# Altium schematic symbol library Transistor_FET.SchLib: 509 symbols (part 2 of 4)
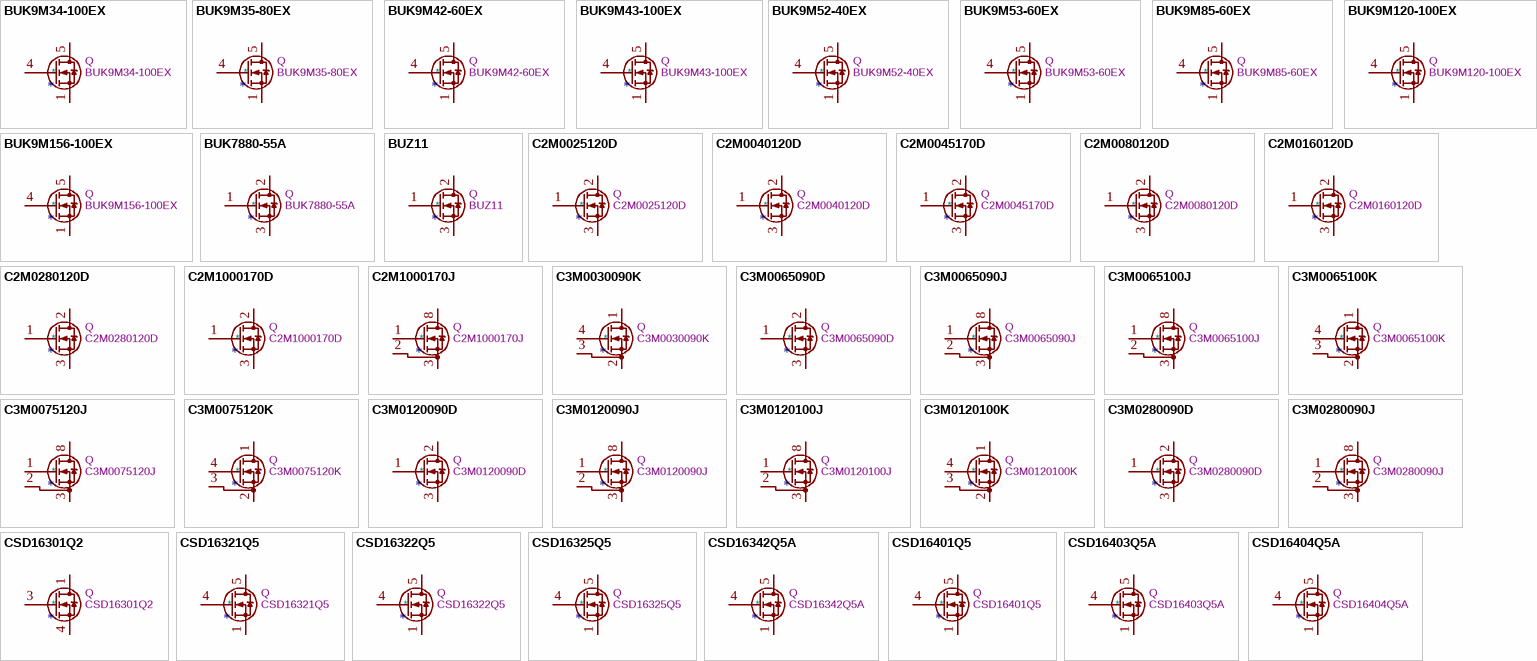
[diagram p14: symbols BUK9M34-100EX to CSD16404Q5A]

## C2M0040120D
designator *  value C2M0040120D  Reference: Q
ki_keywords: N-Channel SiC MOSFET; ki_description: 60A Id, 1200V Vds, 40mOhm, N-Channel SiC MOSFET, TO-247; ki_fp_filters: TO?247*; Footprint: Package_TO_SOT_THT:TO-247-3_Vertical; Datasheet: https://www.wolfspeed.com/media/downloads/165/C2M0040120D.pdf
pins: 1 G, 2 D, 3 S

## C2M0045170D
designator *  value C2M0045170D  Reference: Q
ki_keywords: N-Channel SiC MOSFET; ki_description: 72A Id, 1700V Vds, 45mOhm, N-Channel SiC MOSFET, TO-247; ki_fp_filters: TO?247*; Footprint: Package_TO_SOT_THT:TO-247-3_Vertical; Datasheet: https://www.wolfspeed.com/media/downloads/960/C2M0045170D.000.pdf
pins: 1 G, 2 D, 3 S

## C2M0080120D
designator *  value C2M0080120D  Reference: Q
ki_keywords: N-Channel SiC MOSFET; ki_description: 36A Id, 1200V Vds, 80mOhm, N-Channel SiC MOSFET, TO-247; ki_fp_filters: TO?247*; Footprint: Package_TO_SOT_THT:TO-247-3_Vertical; Datasheet: https://www.wolfspeed.com/media/downloads/167/C2M0080120D.pdf
pins: 1 G, 2 D, 3 S

## C2M0160120D
designator *  value C2M0160120D  Reference: Q
ki_keywords: N-Channel SiC MOSFET; ki_description: 19A Id, 1200V Vds, 160mOhm, N-Channel SiC MOSFET, TO-247; ki_fp_filters: TO?247*; Footprint: Package_TO_SOT_THT:TO-247-3_Vertical; Datasheet: https://www.wolfspeed.com/media/downloads/169/C2M0160120D.pdf
pins: 1 G, 2 D, 3 S

## C2M0280120D
designator *  value C2M0280120D  Reference: Q
ki_keywords: N-Channel SiC MOSFET; ki_description: 10A Id, 1200V Vds, 280mOhm, N-Channel SiC MOSFET, TO-247; ki_fp_filters: TO?247*; Footprint: Package_TO_SOT_THT:TO-247-3_Vertical; Datasheet: https://www.wolfspeed.com/media/downloads/171/C2M0280120D.pdf
pins: 1 G, 2 D, 3 S

## C2M1000170D
designator *  value C2M1000170D  Reference: Q
ki_keywords: N-Channel SiC MOSFET; ki_description: 5A Id, 1700V Vds, 1000mOhm, N-Channel SiC MOSFET, TO-247; ki_fp_filters: TO?247*; Footprint: Package_TO_SOT_THT:TO-247-3_Vertical; Datasheet: https://www.wolfspeed.com/media/downloads/173/C2M1000170D.pdf
pins: 1 G, 2 D, 3 S

## C2M1000170J
designator *  value C2M1000170J  Reference: Q
ki_keywords: N-Channel SiC MOSFET; ki_description: 5.3A Id, 1700V Vds, 1000mOhm, N-Channel SiC MOSFET, TO-263-7; ki_fp_filters: TO?263*TabPin8*; Footprint: Package_TO_SOT_SMD:TO-263-7_TabPin8; Datasheet: https://www.wolfspeed.com/media/downloads/820/C2M1000170J.pdf
pins: 1 G, 2 DS, 3 S, 4 S hidden, 5 S hidden, 6 S hidden, 7 S hidden, 8 D

## C3M0030090K
designator *  value C3M0030090K  Reference: Q
ki_keywords: N-Channel SiC MOSFET; ki_description: 63A Id, 900V Vds, 30mOhm, N-Channel SiC MOSFET, TO-247-4; ki_fp_filters: TO?247*; Footprint: Package_TO_SOT_THT:TO-247-4_Vertical; Datasheet: https://www.wolfspeed.com/media/downloads/1185/C3M0030090K.pdf
pins: 1 D, 2 S, 3 DS, 4 G

## C3M0065090D
designator *  value C3M0065090D  Reference: Q
ki_keywords: N-Channel SiC MOSFET; ki_description: 36A Id, 900V Vds, 65mOhm, N-Channel SiC MOSFET, TO-247; ki_fp_filters: TO?247*; Footprint: Package_TO_SOT_THT:TO-247-3_Vertical; Datasheet: https://www.wolfspeed.com/media/downloads/176/C3M0065090D.pdf
pins: 1 G, 2 D, 3 S

## C3M0065090J
designator *  value C3M0065090J  Reference: Q
ki_keywords: N-Channel SiC MOSFET; ki_description: 35A Id, 900V Vds, 65mOhm, N-Channel SiC MOSFET, TO-263-7; ki_fp_filters: TO?263*TabPin8*; Footprint: Package_TO_SOT_SMD:TO-263-7_TabPin8; Datasheet: https://www.wolfspeed.com/media/downloads/145/C3M0065090J.pdf
pins: 1 G, 2 DS, 3 S, 4 S hidden, 5 S hidden, 6 S hidden, 7 S hidden, 8 D

## C3M0065100J
designator *  value C3M0065100J  Reference: Q
ki_keywords: N-Channel SiC MOSFET; ki_description: 35A Id, 1000V Vds, 65mOhm, N-Channel SiC MOSFET, TO-263-7; ki_fp_filters: TO?263*TabPin8*; Footprint: Package_TO_SOT_SMD:TO-263-7_TabPin8; Datasheet: https://www.wolfspeed.com/media/downloads/958/C3M0065100J.pdf
pins: 1 G, 2 DS, 3 S, 4 S hidden, 5 S hidden, 6 S hidden, 7 S hidden, 8 D

## C3M0065100K
designator *  value C3M0065100K  Reference: Q
ki_keywords: N-Channel SiC MOSFET; ki_description: 35A Id, 1000V Vds, 65mOhm, N-Channel SiC MOSFET, TO-247-4; ki_fp_filters: TO?247*; Footprint: Package_TO_SOT_THT:TO-247-4_Vertical; Datasheet: https://www.wolfspeed.com/media/downloads/961/C3M0065100K.pdf
pins: 1 D, 2 S, 3 DS, 4 G

## C3M0075120J
designator *  value C3M0075120J  Reference: Q
ki_keywords: N-Channel SiC MOSFET; ki_description: 30A Id, 1200V Vds, 75mOhm, N-Channel SiC MOSFET, TO-263-7; ki_fp_filters: TO?263*TabPin8*; Footprint: Package_TO_SOT_SMD:TO-263-7_TabPin8; Datasheet: https://www.wolfspeed.com/media/downloads/997/C3M0075120J.pdf
pins: 1 G, 2 DS, 3 S, 4 S hidden, 5 S hidden, 6 S hidden, 7 S hidden, 8 D

## C3M0075120K
designator *  value C3M0075120K  Reference: Q
ki_keywords: N-Channel SiC MOSFET; ki_description: 30A Id, 1200V Vds, 75mOhm, N-Channel SiC MOSFET, TO-247-4; ki_fp_filters: TO?247*; Footprint: Package_TO_SOT_THT:TO-247-4_Vertical; Datasheet: https://www.wolfspeed.com/media/downloads/959/c3m0075120k.pdf
pins: 1 D, 2 S, 3 DS, 4 G

## C3M0120090D
designator *  value C3M0120090D  Reference: Q
ki_keywords: N-Channel SiC MOSFET; ki_description: 23A Id, 900V Vds, 120mOhm, N-Channel SiC MOSFET, TO-247; ki_fp_filters: TO?247*; Footprint: Package_TO_SOT_THT:TO-247-3_Vertical; Datasheet: https://www.wolfspeed.com/media/downloads/824/C3M0120090D.pdf
pins: 1 G, 2 D, 3 S

## C3M0120090J
designator *  value C3M0120090J  Reference: Q
ki_keywords: N-Channel SiC MOSFET; ki_description: 22A Id, 900V Vds, 120mOhm, N-Channel SiC MOSFET, TO-263-7; ki_fp_filters: TO?263*TabPin8*; Footprint: Package_TO_SOT_SMD:TO-263-7_TabPin8; Datasheet: https://www.wolfspeed.com/media/downloads/834/C3M0120090J.pdf
pins: 1 G, 2 DS, 3 S, 4 S hidden, 5 S hidden, 6 S hidden, 7 S hidden, 8 D

## C3M0120100J
designator *  value C3M0120100J  Reference: Q
ki_keywords: N-Channel SiC MOSFET; ki_description: 22A Id, 1000V Vds, 120mOhm, N-Channel SiC MOSFET, TO-263-7; ki_fp_filters: TO?263*TabPin8*; Footprint: Package_TO_SOT_SMD:TO-263-7_TabPin8; Datasheet: https://www.wolfspeed.com/media/downloads/957/C3M0120100J.pdf
pins: 1 G, 2 DS, 3 S, 4 S hidden, 5 S hidden, 6 S hidden, 7 S hidden, 8 D

## C3M0120100K
designator *  value C3M0120100K  Reference: Q
ki_keywords: N-Channel SiC MOSFET; ki_description: 22A Id, 1000V Vds, 120mOhm, N-Channel SiC MOSFET, TO-247-4; ki_fp_filters: TO?247*; Footprint: Package_TO_SOT_THT:TO-247-4_Vertical; Datasheet: https://www.wolfspeed.com/media/downloads/962/C3M0120100K.pdf
pins: 1 D, 2 S, 3 DS, 4 G

## C3M0280090D
designator *  value C3M0280090D  Reference: Q
ki_keywords: N-Channel SiC MOSFET; ki_description: 11.5A Id, 900V Vds, 280mOhm, N-Channel SiC MOSFET, TO-247; ki_fp_filters: TO?247*; Footprint: Package_TO_SOT_THT:TO-247-3_Vertical; Datasheet: https://www.wolfspeed.com/media/downloads/825/C3M0280090D.pdf
pins: 1 G, 2 D, 3 S

## C3M0280090J
designator *  value C3M0280090J  Reference: Q
ki_keywords: N-Channel SiC MOSFET; ki_description: 11.5A Id, 900V Vds, 280mOhm, N-Channel SiC MOSFET, TO-263-7; ki_fp_filters: TO?263*TabPin8*; Footprint: Package_TO_SOT_SMD:TO-263-7_TabPin8; Datasheet: https://www.wolfspeed.com/media/downloads/835/C3M0280090J.pdf
pins: 1 G, 2 DS, 3 S, 4 S hidden, 5 S hidden, 6 S hidden, 7 S hidden, 8 D

## CSD16301Q2
designator *  value CSD16301Q2  Reference: Q
ki_keywords: NexFET Power MOSFET N-MOS; ki_description: 5A Id, 25V Vds, NexFET N-Channel Power MOSFET, 19mOhm Ron, SON-6; ki_fp_filters: Texas*DQK*; Footprint: Package_SON:Texas_DQK; Datasheet: http://www.ti.com/lit/ds/symlink/csd16301q2.pdf
pins: 1 D, 2 D hidden, 3 G, 4 S, 5 D hidden, 6 D hidden, 7 S hidden, 8 D hidden

## CSD16321Q5
designator *  value CSD16321Q5  Reference: Q
ki_keywords: NexFET Power MOSFET N-MOS; ki_description: 100A Id, 25V Vds, NexFET N-Channel Power MOSFET, 2.6mOhm Ron, 14nC Qg(typ), SON8 5x6mm; ki_fp_filters: TDSON*; Footprint: Package_TO_SOT_SMD:TDSON-8-1; Datasheet: http://www.ti.com/lit/gpn/csd16321q5
pins: 1 S, 2 S hidden, 3 S hidden, 4 G, 5 D

## CSD16322Q5
designator *  value CSD16322Q5  Reference: Q
ki_keywords: NexFET Power MOSFET N-MOS; ki_description: 100A Id, 25V Vds, NexFET N-Channel Power MOSFET, 5.8mOhm Ron, Qg (typ) 6.8nC, SON8 5x6mm; ki_fp_filters: TDSON*; Footprint: Package_TO_SOT_SMD:TDSON-8-1; Datasheet: http://www.ti.com/lit/gpn/csd16322q5
pins: 1 S, 2 S hidden, 3 S hidden, 4 G, 5 D

## CSD16325Q5
designator *  value CSD16325Q5  Reference: Q
ki_keywords: NexFET Power MOSFET N-MOS; ki_description: 100A Id, 25V Vds, NexFET N-Channel Power MOSFET, 2.2mOhm Ron, 18nC Qg(typ), SON8 5x6mm; ki_fp_filters: TDSON*; Footprint: Package_TO_SOT_SMD:TDSON-8-1; Datasheet: http://www.ti.com/lit/gpn/csd16325q5
pins: 1 S, 2 S hidden, 3 S hidden, 4 G, 5 D

## CSD16342Q5A
designator *  value CSD16342Q5A  Reference: Q
ki_keywords: NexFET Power MOSFET N-MOS; ki_description: 100A Id, 25V Vds, NexFET N-Channel Power MOSFET, 5.5mOhm Ron, Qg (typ) 6.5nC, SON8 5x6mm; ki_fp_filters: TDSON*; Footprint: Package_TO_SOT_SMD:TDSON-8-1; Datasheet: http://www.ti.com/lit/gpn/csd16342q5a
pins: 1 S, 2 S hidden, 3 S hidden, 4 G, 5 D

## CSD16401Q5
designator *  value CSD16401Q5  Reference: Q
ki_keywords: NexFET Power MOSFET N-MOS; ki_description: 100A Id, 25V Vds, NexFET N-Channel Power MOSFET, 1.6mOhm Ron, 21nC Qg(typ), SON8 5x6mm; ki_fp_filters: TDSON*; Footprint: Package_TO_SOT_SMD:TDSON-8-1; Datasheet: http://www.ti.com/lit/gpn/csd16401q5
pins: 1 S, 2 S hidden, 3 S hidden, 4 G, 5 D

## CSD16403Q5A
designator *  value CSD16403Q5A  Reference: Q
ki_keywords: NexFET Power MOSFET N-MOS; ki_description: 100A Id, 25V Vds, NexFET N-Channel Power MOSFET, 2.8mOhm Ron, Qg (typ) 13.3nC, SON8 5x6mm; ki_fp_filters: TDSON*; Footprint: Package_TO_SOT_SMD:TDSON-8-1; Datasheet: http://www.ti.com/lit/gpn/csd16403q5a
pins: 1 S, 2 S hidden, 3 S hidden, 4 G, 5 D

## CSD16404Q5A
designator *  value CSD16404Q5A  Reference: Q
ki_keywords: NexFET Power MOSFET N-MOS; ki_description: 100A Id, 25V Vds, NexFET N-Channel Power MOSFET, 5.1mOhm Ron, Qg (typ) 6.5nC, SON8 5x6mm; ki_fp_filters: TDSON*; Footprint: Package_TO_SOT_SMD:TDSON-8-1; Datasheet: http://www.ti.com/lit/gpn/csd16404q5a
pins: 1 S, 2 S hidden, 3 S hidden, 4 G, 5 D

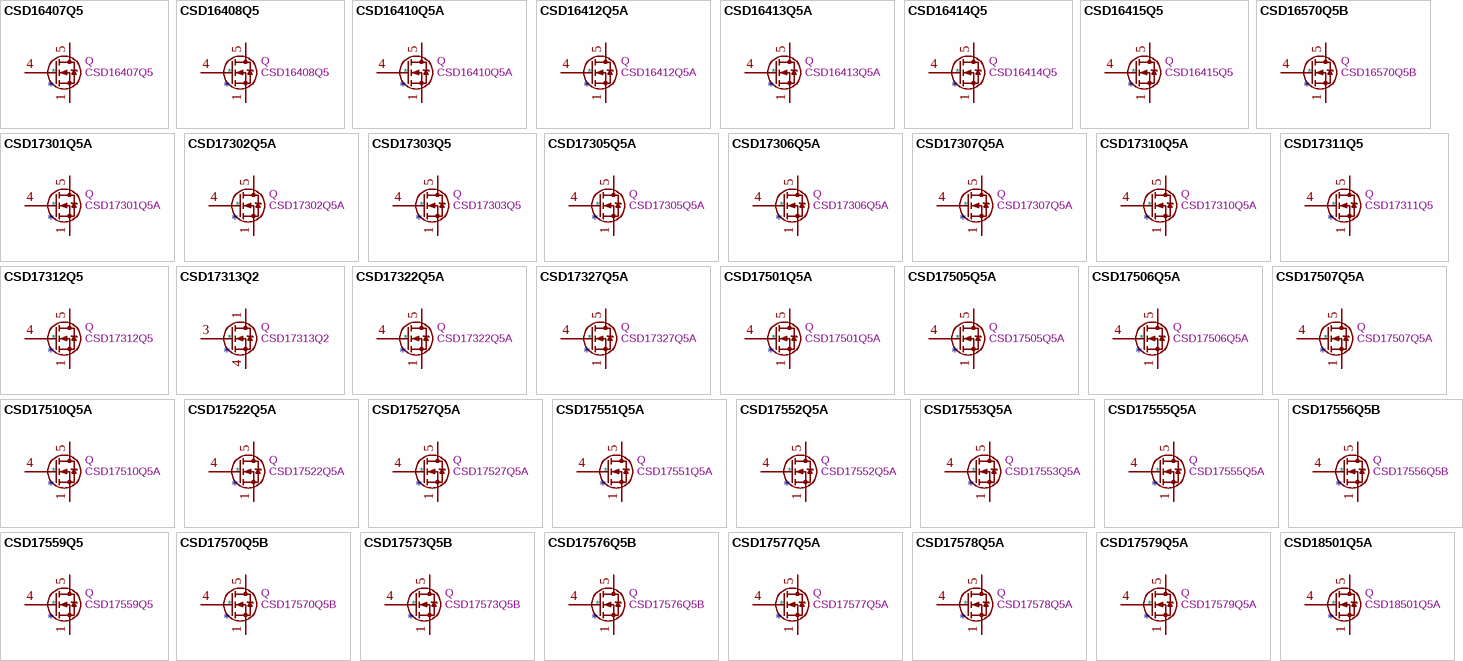
[diagram p4: symbols CSD16407Q5 to CSD18501Q5A]

## CSD16407Q5
designator *  value CSD16407Q5  Reference: Q
ki_keywords: NexFET Power MOSFET N-MOS; ki_description: 100A Id, 25V Vds, NexFET N-Channel Power MOSFET, 2.4mOhm Ron, Qg (typ) 13.3nC, SON8 5x6mm; ki_fp_filters: TDSON*; Footprint: Package_TO_SOT_SMD:TDSON-8-1; Datasheet: http://www.ti.com/lit/gpn/csd16407q5
pins: 1 S, 2 S hidden, 3 S hidden, 4 G, 5 D

## CSD16408Q5
designator *  value CSD16408Q5  Reference: Q
ki_keywords: NexFET Power MOSFET N-MOS; ki_description: 100A Id, 25V Vds, NexFET N-Channel Power MOSFET, 4.5mOhm Ron, Qg (typ) 6.7nC, SON8 5x6mm; ki_fp_filters: TDSON*; Footprint: Package_TO_SOT_SMD:TDSON-8-1; Datasheet: http://www.ti.com/lit/gpn/csd16408q5
pins: 1 S, 2 S hidden, 3 S hidden, 4 G, 5 D

## CSD16410Q5A
designator *  value CSD16410Q5A  Reference: Q
ki_keywords: NexFET Power MOSFET N-MOS; ki_description: 100A Id, 25V Vds, NexFET N-Channel Power MOSFET, 8.5mOhm Ron, Qg (typ) 3.9nC, SON8 5x6mm; ki_fp_filters: TDSON*; Footprint: Package_TO_SOT_SMD:TDSON-8-1; Datasheet: http://www.ti.com/lit/gpn/csd16410q5a
pins: 1 S, 2 S hidden, 3 S hidden, 4 G, 5 D

## CSD16412Q5A
designator *  value CSD16412Q5A  Reference: Q
ki_keywords: NexFET Power MOSFET N-MOS; ki_description: 100A Id, 25V Vds, NexFET N-Channel Power MOSFET, 11mOhm Ron, Qg (typ) 2.9nC, SON8 5x6mm; ki_fp_filters: TDSON*; Footprint: Package_TO_SOT_SMD:TDSON-8-1; Datasheet: http://www.ti.com/lit/gpn/csd16412q5a
pins: 1 S, 2 S hidden, 3 S hidden, 4 G, 5 D

## CSD16413Q5A
designator *  value CSD16413Q5A  Reference: Q
ki_keywords: NexFET Power MOSFET N-MOS; ki_description: 100A Id, 25V Vds, NexFET N-Channel Power MOSFET, 3.9mOhm Ron, 9nC Qg(typ), SON8 5x6mm; ki_fp_filters: TDSON*; Footprint: Package_TO_SOT_SMD:TDSON-8-1; Datasheet: http://www.ti.com/lit/gpn/csd16413q5a
pins: 1 S, 2 S hidden, 3 S hidden, 4 G, 5 D

## CSD16414Q5
designator *  value CSD16414Q5  Reference: Q
ki_keywords: NexFET Power MOSFET N-MOS; ki_description: 100A Id, 25V Vds, NexFET N-Channel Power MOSFET, 1.9mOhm Ron, Qg (typ) 16.6nC, SON8 5x6mm; ki_fp_filters: TDSON*; Footprint: Package_TO_SOT_SMD:TDSON-8-1; Datasheet: http://www.ti.com/lit/gpn/csd16414q5
pins: 1 S, 2 S hidden, 3 S hidden, 4 G, 5 D

## CSD16415Q5
designator *  value CSD16415Q5  Reference: Q
ki_keywords: NexFET Power MOSFET N-MOS; ki_description: 100A Id, 25V Vds, NexFET N-Channel Power MOSFET, 1.15mOhm Ron, 21nC Qg(typ), SON8 5x6mm; ki_fp_filters: TDSON*; Footprint: Package_TO_SOT_SMD:TDSON-8-1; Datasheet: http://www.ti.com/lit/gpn/csd16415q5
pins: 1 S, 2 S hidden, 3 S hidden, 4 G, 5 D

## CSD16570Q5B
designator *  value CSD16570Q5B  Reference: Q
ki_keywords: NexFET Power MOSFET N-MOS; ki_description: 100A Id, 25V Vds, NexFET N-Channel Power MOSFET, 0.59mOhm Ron, 95nC Qg(typ), SON8 5x6mm; ki_fp_filters: TDSON*; Footprint: Package_TO_SOT_SMD:TDSON-8-1; Datasheet: http://www.ti.com/lit/gpn/csd16570q5b
pins: 1 S, 2 S hidden, 3 S hidden, 4 G, 5 D

## CSD17301Q5A
designator *  value CSD17301Q5A  Reference: Q
ki_keywords: NexFET Power MOSFET N-MOS; ki_description: 100A Id, 30V Vds, NexFET N-Channel Power MOSFET, 3mOhm Ron, 19nC Qg(typ), SON8 5x6mm; ki_fp_filters: TDSON*; Footprint: Package_TO_SOT_SMD:TDSON-8-1; Datasheet: http://www.ti.com/lit/gpn/csd17301q5a
pins: 1 S, 2 S hidden, 3 S hidden, 4 G, 5 D

## CSD17302Q5A
designator *  value CSD17302Q5A  Reference: Q
ki_keywords: NexFET Power MOSFET N-MOS; ki_description: 100A Id, 30V Vds, NexFET N-Channel Power MOSFET, 9mOhm Ron, Qg (typ) 5.4nC, SON8 5x6mm; ki_fp_filters: TDSON*; Footprint: Package_TO_SOT_SMD:TDSON-8-1; Datasheet: http://www.ti.com/lit/gpn/csd17302q5a
pins: 1 S, 2 S hidden, 3 S hidden, 4 G, 5 D

## CSD17303Q5
designator *  value CSD17303Q5  Reference: Q
ki_keywords: NexFET Power MOSFET N-MOS; ki_description: 100A Id, 30V Vds, NexFET N-Channel Power MOSFET, 2.6mOhm Ron, 18nC Qg(typ), SON8 5x6mm; ki_fp_filters: TDSON*; Footprint: Package_TO_SOT_SMD:TDSON-8-1; Datasheet: http://www.ti.com/lit/gpn/csd17303q5
pins: 1 S, 2 S hidden, 3 S hidden, 4 G, 5 D

## CSD17305Q5A
designator *  value CSD17305Q5A  Reference: Q
ki_keywords: NexFET Power MOSFET N-MOS; ki_description: 100A Id, 30V Vds, NexFET N-Channel Power MOSFET, 2.8mOhm Ron, Qg (typ) 14.1nC, SON8 5x6mm; ki_fp_filters: TDSON*; Footprint: Package_TO_SOT_SMD:TDSON-8-1; Datasheet: http://www.ti.com/lit/gpn/csd17305q5a
pins: 1 S, 2 S hidden, 3 S hidden, 4 G, 5 D

## CSD17306Q5A
designator *  value CSD17306Q5A  Reference: Q
ki_keywords: NexFET Power MOSFET N-MOS; ki_description: 100A Id, 30V Vds, NexFET N-Channel Power MOSFET, 4.2mOhm Ron, Qg (typ) 11.8nC, SON8 5x6mm; ki_fp_filters: TDSON*; Footprint: Package_TO_SOT_SMD:TDSON-8-1; Datasheet: http://www.ti.com/lit/gpn/csd17306q5a
pins: 1 S, 2 S hidden, 3 S hidden, 4 G, 5 D

## CSD17307Q5A
designator *  value CSD17307Q5A  Reference: Q
ki_keywords: NexFET Power MOSFET N-MOS; ki_description: 100A Id, 30V Vds, NexFET N-Channel Power MOSFET, 12.1mOhm Ron, 4nC Qg(typ), SON8 5x6mm; ki_fp_filters: TDSON*; Footprint: Package_TO_SOT_SMD:TDSON-8-1; Datasheet: http://www.ti.com/lit/gpn/csd17307q5a
pins: 1 S, 2 S hidden, 3 S hidden, 4 G, 5 D

## CSD17310Q5A
designator *  value CSD17310Q5A  Reference: Q
ki_keywords: NexFET Power MOSFET N-MOS; ki_description: 100A Id, 30V Vds, NexFET N-Channel Power MOSFET, 5.9mOhm Ron, Qg (typ) 8.9nC, SON8 5x6mm; ki_fp_filters: TDSON*; Footprint: Package_TO_SOT_SMD:TDSON-8-1; Datasheet: http://www.ti.com/lit/gpn/csd17310q5a
pins: 1 S, 2 S hidden, 3 S hidden, 4 G, 5 D

## CSD17311Q5
designator *  value CSD17311Q5  Reference: Q
ki_keywords: NexFET Power MOSFET N-MOS; ki_description: 100A Id, 30V Vds, NexFET N-Channel Power MOSFET, 2.3mOhm Ron, 24nC Qg(typ), SON8 5x6mm; ki_fp_filters: TDSON*; Footprint: Package_TO_SOT_SMD:TDSON-8-1; Datasheet: http://www.ti.com/lit/gpn/csd17311q5
pins: 1 S, 2 S hidden, 3 S hidden, 4 G, 5 D

## CSD17312Q5
designator *  value CSD17312Q5  Reference: Q
ki_keywords: NexFET Power MOSFET N-MOS; ki_description: 100A Id, 30V Vds, NexFET N-Channel Power MOSFET, 1.7mOhm Ron, 28nC Qg(typ), SON8 5x6mm; ki_fp_filters: TDSON*; Footprint: Package_TO_SOT_SMD:TDSON-8-1; Datasheet: http://www.ti.com/lit/gpn/csd17312q5
pins: 1 S, 2 S hidden, 3 S hidden, 4 G, 5 D

## CSD17313Q2
designator *  value CSD17313Q2  Reference: Q
ki_keywords: NexFET Power MOSFET N-MOS; ki_description: 5A Id, 30V Vds, NexFET N-Channel Power MOSFET, 24mOhm Ron, SON-6; ki_fp_filters: Texas*DQK*; Footprint: Package_SON:Texas_DQK; Datasheet: http://www.ti.com/lit/ds/symlink/csd17313q2.pdf
pins: 1 D, 2 D hidden, 3 G, 4 S, 5 D hidden, 6 D hidden, 7 S hidden, 8 D hidden

## CSD17322Q5A
designator *  value CSD17322Q5A  Reference: Q
ki_keywords: NexFET Power MOSFET N-MOS; ki_description: 100A Id, 30V Vds, NexFET N-Channel Power MOSFET, 12.4mOhm Ron, Qg (typ) 3.6nC, SON8 5x6mm; ki_fp_filters: TDSON*; Footprint: Package_TO_SOT_SMD:TDSON-8-1; Datasheet: http://www.ti.com/lit/gpn/csd17322q5a
pins: 1 S, 2 S hidden, 3 S hidden, 4 G, 5 D

## CSD17327Q5A
designator *  value CSD17327Q5A  Reference: Q
ki_keywords: NexFET Power MOSFET N-MOS; ki_description: 100A Id, 30V Vds, NexFET N-Channel Power MOSFET, 15.5mOhm Ron, Qg (typ) 2.8nC, SON8 5x6mm; ki_fp_filters: TDSON*; Footprint: Package_TO_SOT_SMD:TDSON-8-1; Datasheet: http://www.ti.com/lit/gpn/csd17327q5a
pins: 1 S, 2 S hidden, 3 S hidden, 4 G, 5 D

## CSD17501Q5A
designator *  value CSD17501Q5A  Reference: Q
ki_keywords: NexFET Power MOSFET N-MOS; ki_description: 100A Id, 30V Vds, NexFET N-Channel Power MOSFET, 2.9mOhm Ron, Qg (typ) 13.2nC, SON8 5x6mm; ki_fp_filters: TDSON*; Footprint: Package_TO_SOT_SMD:TDSON-8-1; Datasheet: http://www.ti.com/lit/gpn/csd17501q5a
pins: 1 S, 2 S hidden, 3 S hidden, 4 G, 5 D

## CSD17505Q5A
designator *  value CSD17505Q5A  Reference: Q
ki_keywords: NexFET Power MOSFET N-MOS; ki_description: 100A Id, 30V Vds, NexFET N-Channel Power MOSFET, 3.5mOhm Ron, 10nC Qg(typ), SON8 5x6mm; ki_fp_filters: TDSON*; Footprint: Package_TO_SOT_SMD:TDSON-8-1; Datasheet: http://www.ti.com/lit/gpn/csd17505q5a
pins: 1 S, 2 S hidden, 3 S hidden, 4 G, 5 D

## CSD17506Q5A
designator *  value CSD17506Q5A  Reference: Q
ki_keywords: NexFET Power MOSFET N-MOS; ki_description: 100A Id, 30V Vds, NexFET N-Channel Power MOSFET, 4mOhm Ron, Qg (typ) 8.3nC, SON8 5x6mm; ki_fp_filters: TDSON*; Footprint: Package_TO_SOT_SMD:TDSON-8-1; Datasheet: http://www.ti.com/lit/gpn/csd17506q5a
pins: 1 S, 2 S hidden, 3 S hidden, 4 G, 5 D

## CSD17507Q5A
designator *  value CSD17507Q5A  Reference: Q
ki_keywords: NexFET Power MOSFET N-MOS; ki_description: 100A Id, 30V Vds, NexFET N-Channel Power MOSFET, 10.8mOhm Ron, Qg (typ) 2.8nC, SON8 5x6mm; ki_fp_filters: TDSON*; Footprint: Package_TO_SOT_SMD:TDSON-8-1; Datasheet: http://www.ti.com/lit/gpn/csd17507q5a
pins: 1 S, 2 S hidden, 3 S hidden, 4 G, 5 D

## CSD17510Q5A
designator *  value CSD17510Q5A  Reference: Q
ki_keywords: NexFET Power MOSFET N-MOS; ki_description: 100A Id, 30V Vds, NexFET N-Channel Power MOSFET, 5.2mOhm Ron, Qg (typ) 6.4nC, SON8 5x6mm; ki_fp_filters: TDSON*; Footprint: Package_TO_SOT_SMD:TDSON-8-1; Datasheet: http://www.ti.com/lit/gpn/csd17510q5a
pins: 1 S, 2 S hidden, 3 S hidden, 4 G, 5 D

## CSD17522Q5A
designator *  value CSD17522Q5A  Reference: Q
ki_keywords: NexFET Power MOSFET N-MOS; ki_description: 100A Id, 30V Vds, NexFET N-Channel Power MOSFET, 8.1mOhm Ron, Qg (typ) 3.6nC, SON8 5x6mm; ki_fp_filters: TDSON*; Footprint: Package_TO_SOT_SMD:TDSON-8-1; Datasheet: http://www.ti.com/lit/gpn/csd17522q5a
pins: 1 S, 2 S hidden, 3 S hidden, 4 G, 5 D

## CSD17527Q5A
designator *  value CSD17527Q5A  Reference: Q
ki_keywords: NexFET Power MOSFET N-MOS; ki_description: 100A Id, 30V Vds, NexFET N-Channel Power MOSFET, 10.8mOhm Ron, Qg (typ) 2.8nC, SON8 5x6mm; ki_fp_filters: TDSON*; Footprint: Package_TO_SOT_SMD:TDSON-8-1; Datasheet: http://www.ti.com/lit/gpn/csd17527q5a
pins: 1 S, 2 S hidden, 3 S hidden, 4 G, 5 D

## CSD17551Q5A
designator *  value CSD17551Q5A  Reference: Q
ki_keywords: NexFET Power MOSFET N-MOS; ki_description: 48A Id, 30V Vds, NexFET N-Channel Power MOSFET, 8.8mOhm Ron, 6nC Qg(typ), SON8 5x6mm; ki_fp_filters: TDSON*; Footprint: Package_TO_SOT_SMD:TDSON-8-1; Datasheet: http://www.ti.com/lit/gpn/csd17551q5a
pins: 1 S, 2 S hidden, 3 S hidden, 4 G, 5 D

## CSD17552Q5A
designator *  value CSD17552Q5A  Reference: Q
ki_keywords: NexFET Power MOSFET N-MOS; ki_description: 60A Id, 30V Vds, NexFET N-Channel Power MOSFET, 6.2mOhm Ron, 9nC Qg(typ), SON8 5x6mm; ki_fp_filters: TDSON*; Footprint: Package_TO_SOT_SMD:TDSON-8-1; Datasheet: http://www.ti.com/lit/gpn/csd17552q5a
pins: 1 S, 2 S hidden, 3 S hidden, 4 G, 5 D

## CSD17553Q5A
designator *  value CSD17553Q5A  Reference: Q
ki_keywords: NexFET Power MOSFET N-MOS; ki_description: 100A Id, 30V Vds, NexFET N-Channel Power MOSFET, 3.1mOhm Ron, Qg (typ) 17.5nC, SON8 5x6mm; ki_fp_filters: TDSON*; Footprint: Package_TO_SOT_SMD:TDSON-8-1; Datasheet: http://www.ti.com/lit/gpn/csd17553q5a
pins: 1 S, 2 S hidden, 3 S hidden, 4 G, 5 D

## CSD17555Q5A
designator *  value CSD17555Q5A  Reference: Q
ki_keywords: NexFET Power MOSFET N-MOS; ki_description: 100A Id, 30V Vds, NexFET N-Channel Power MOSFET, 2.7mOhm Ron, 23nC Qg(typ), SON8 5x6mm; ki_fp_filters: TDSON*; Footprint: Package_TO_SOT_SMD:TDSON-8-1; Datasheet: http://www.ti.com/lit/gpn/csd17555q5a
pins: 1 S, 2 S hidden, 3 S hidden, 4 G, 5 D

## CSD17556Q5B
designator *  value CSD17556Q5B  Reference: Q
ki_keywords: NexFET Power MOSFET N-MOS; ki_description: 100A Id, 30V Vds, NexFET N-Channel Power MOSFET, 1.4mOhm Ron, Qg (typ) 28.5nC, SON8 5x6mm; ki_fp_filters: TDSON*; Footprint: Package_TO_SOT_SMD:TDSON-8-1; Datasheet: http://www.ti.com/lit/gpn/csd17556q5b
pins: 1 S, 2 S hidden, 3 S hidden, 4 G, 5 D

## CSD17559Q5
designator *  value CSD17559Q5  Reference: Q
ki_keywords: NexFET Power MOSFET N-MOS; ki_description: 100A Id, 30V Vds, NexFET N-Channel Power MOSFET, 1.15mOhm Ron, 39nC Qg(typ), SON8 5x6mm; ki_fp_filters: TDSON*; Footprint: Package_TO_SOT_SMD:TDSON-8-1; Datasheet: http://www.ti.com/lit/gpn/csd17559q5
pins: 1 S, 2 S hidden, 3 S hidden, 4 G, 5 D

## CSD17570Q5B
designator *  value CSD17570Q5B  Reference: Q
ki_keywords: NexFET Power MOSFET N-MOS; ki_description: 100A Id, 30V Vds, NexFET N-Channel Power MOSFET, 0.69mOhm Ron, 93nC Qg(typ), SON8 5x6mm; ki_fp_filters: TDSON*; Footprint: Package_TO_SOT_SMD:TDSON-8-1; Datasheet: http://www.ti.com/lit/gpn/csd17570q5b
pins: 1 S, 2 S hidden, 3 S hidden, 4 G, 5 D

## CSD17573Q5B
designator *  value CSD17573Q5B  Reference: Q
ki_keywords: NexFET Power MOSFET N-MOS; ki_description: 100A Id, 30V Vds, NexFET N-Channel Power MOSFET, 1mOhm Ron, 49nC Qg(typ), SON8 5x6mm; ki_fp_filters: TDSON*; Footprint: Package_TO_SOT_SMD:TDSON-8-1; Datasheet: http://www.ti.com/lit/gpn/csd17573q5b
pins: 1 S, 2 S hidden, 3 S hidden, 4 G, 5 D

## CSD17576Q5B
designator *  value CSD17576Q5B  Reference: Q
ki_keywords: NexFET Power MOSFET N-MOS; ki_description: 100A Id, 30V Vds, NexFET N-Channel Power MOSFET, 2mOhm Ron, 25nC Qg(typ), SON8 5x6mm; ki_fp_filters: TDSON*; Footprint: Package_TO_SOT_SMD:TDSON-8-1; Datasheet: http://www.ti.com/lit/gpn/csd17576q5b
pins: 1 S, 2 S hidden, 3 S hidden, 4 G, 5 D

## CSD17577Q5A
designator *  value CSD17577Q5A  Reference: Q
ki_keywords: NexFET Power MOSFET N-MOS; ki_description: 60A Id, 30V Vds, NexFET N-Channel Power MOSFET, 4.2mOhm Ron, 13nC Qg(typ), SON8 5x6mm; ki_fp_filters: TDSON*; Footprint: Package_TO_SOT_SMD:TDSON-8-1; Datasheet: http://www.ti.com/lit/gpn/csd17577q5a
pins: 1 S, 2 S hidden, 3 S hidden, 4 G, 5 D

## CSD17578Q5A
designator *  value CSD17578Q5A  Reference: Q
ki_keywords: NexFET Power MOSFET N-MOS; ki_description: 25A Id, 30V Vds, NexFET N-Channel Power MOSFET, 6.9mOhm Ron, Qg (typ) 7.9nC, SON8 5x6mm; ki_fp_filters: TDSON*; Footprint: Package_TO_SOT_SMD:TDSON-8-1; Datasheet: http://www.ti.com/lit/gpn/csd17578q5a
pins: 1 S, 2 S hidden, 3 S hidden, 4 G, 5 D

## CSD17579Q5A
designator *  value CSD17579Q5A  Reference: Q
ki_keywords: NexFET Power MOSFET N-MOS; ki_description: 25A Id, 30V Vds, NexFET N-Channel Power MOSFET, 9.7mOhm Ron, Qg (typ) 5.4nC, SON8 5x6mm; ki_fp_filters: TDSON*; Footprint: Package_TO_SOT_SMD:TDSON-8-1; Datasheet: http://www.ti.com/lit/gpn/csd17579q5a
pins: 1 S, 2 S hidden, 3 S hidden, 4 G, 5 D

## CSD18501Q5A
designator *  value CSD18501Q5A  Reference: Q
ki_keywords: NexFET Power MOSFET N-MOS; ki_description: 100A Id, 40V Vds, NexFET N-Channel Power MOSFET, 3.2mOhm Ron, 42nC Qg(typ), SON8 5x6mm; ki_fp_filters: TDSON*; Footprint: Package_TO_SOT_SMD:TDSON-8-1; Datasheet: http://www.ti.com/lit/gpn/csd18501q5a
pins: 1 S, 2 S hidden, 3 S hidden, 4 G, 5 D

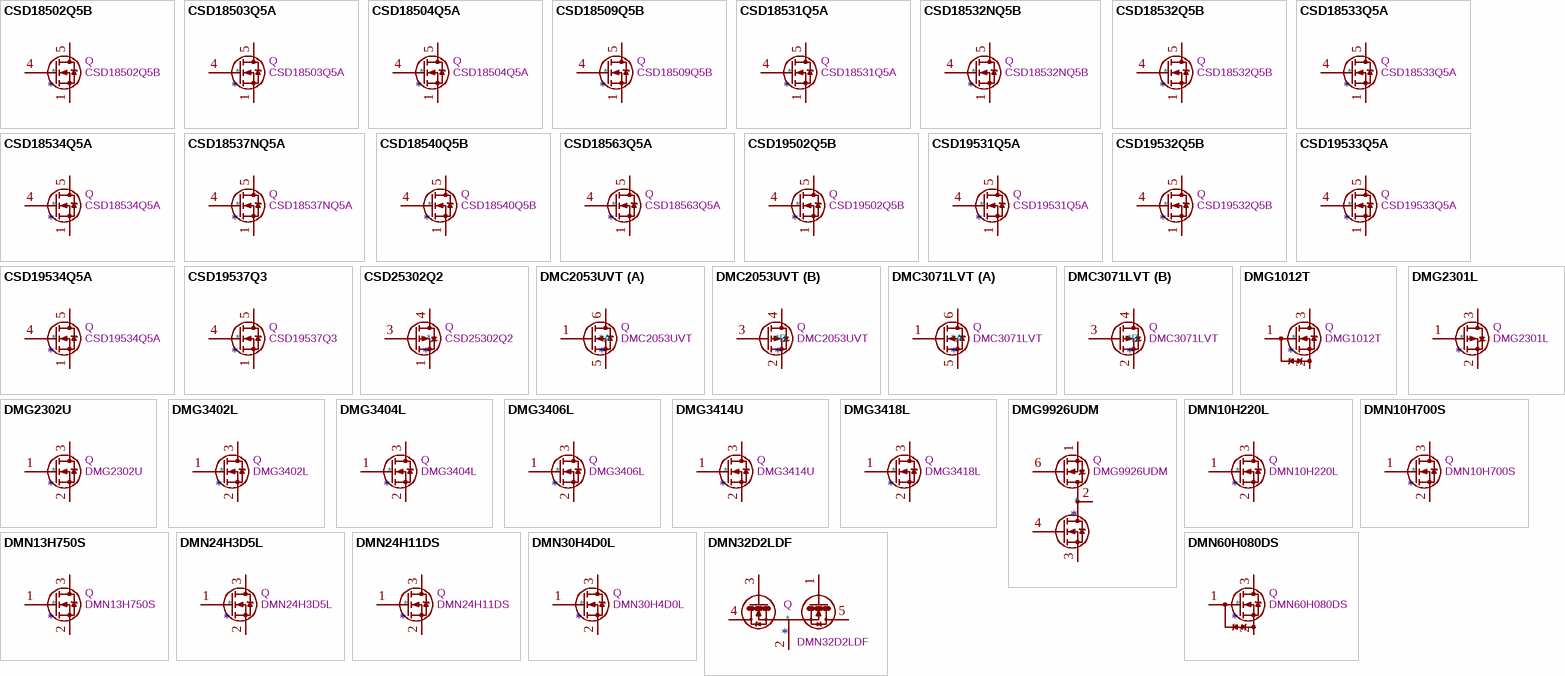
[diagram p5: symbols CSD18502Q5B to DMN60H080DS]

## CSD18502Q5B
designator *  value CSD18502Q5B  Reference: Q
ki_keywords: NexFET Power MOSFET N-MOS; ki_description: 100A Id, 40V Vds, NexFET N-Channel Power MOSFET, 2.3mOhm Ron, 52nC Qg(typ), SON8 5x6mm; ki_fp_filters: TDSON*; Footprint: Package_TO_SOT_SMD:TDSON-8-1; Datasheet: http://www.ti.com/lit/gpn/csd18502q5b
pins: 1 S, 2 S hidden, 3 S hidden, 4 G, 5 D

## CSD18503Q5A
designator *  value CSD18503Q5A  Reference: Q
ki_keywords: NexFET Power MOSFET N-MOS; ki_description: 100A Id, 40V Vds, NexFET N-Channel Power MOSFET, 4.3mOhm Ron, 26nC Qg(typ), SON8 5x6mm; ki_fp_filters: TDSON*; Footprint: Package_TO_SOT_SMD:TDSON-8-1; Datasheet: http://www.ti.com/lit/gpn/csd18503q5a
pins: 1 S, 2 S hidden, 3 S hidden, 4 G, 5 D

## CSD18504Q5A
designator *  value CSD18504Q5A  Reference: Q
ki_keywords: NexFET Power MOSFET N-MOS; ki_description: 50A Id, 40V Vds, NexFET N-Channel Power MOSFET, 6.6mOhm Ron, 16nC Qg(typ), SON8 5x6mm; ki_fp_filters: TDSON*; Footprint: Package_TO_SOT_SMD:TDSON-8-1; Datasheet: http://www.ti.com/lit/gpn/csd18504q5a
pins: 1 S, 2 S hidden, 3 S hidden, 4 G, 5 D

## CSD18509Q5B
designator *  value CSD18509Q5B  Reference: Q
ki_keywords: NexFET Power MOSFET N-MOS; ki_description: 100A Id, 40V Vds, NexFET N-Channel Power MOSFET, 1.2mOhm Ron, 150nC Qg(typ), SON8 5x6mm; ki_fp_filters: TDSON*; Footprint: Package_TO_SOT_SMD:TDSON-8-1; Datasheet: http://www.ti.com/lit/gpn/csd18509q5b
pins: 1 S, 2 S hidden, 3 S hidden, 4 G, 5 D

## CSD18531Q5A
designator *  value CSD18531Q5A  Reference: Q
ki_keywords: NexFET Power MOSFET N-MOS; ki_description: 100A Id, 60V Vds, NexFET N-Channel Power MOSFET, 4.6mOhm Ron, 36nC Qg(typ), SON8 5x6mm; ki_fp_filters: TDSON*; Footprint: Package_TO_SOT_SMD:TDSON-8-1; Datasheet: http://www.ti.com/lit/gpn/csd18531q5a
pins: 1 S, 2 S hidden, 3 S hidden, 4 G, 5 D

## CSD18532NQ5B
designator *  value CSD18532NQ5B  Reference: Q
ki_keywords: NexFET Power MOSFET N-MOS; ki_description: 100A Id, 60V Vds, NexFET N-Channel Power MOSFET, 3.4mOhm Ron, 49nC Qg(typ), SON8 5x6mm; ki_fp_filters: TDSON*; Footprint: Package_TO_SOT_SMD:TDSON-8-1; Datasheet: http://www.ti.com/lit/gpn/csd18532nq5b
pins: 1 S, 2 S hidden, 3 S hidden, 4 G, 5 D

## CSD18532Q5B
designator *  value CSD18532Q5B  Reference: Q
ki_keywords: NexFET Power MOSFET N-MOS; ki_description: 100A Id, 60V Vds, NexFET N-Channel Power MOSFET, 3.2mOhm Ron, 44nC Qg(typ), SON8 5x6mm; ki_fp_filters: TDSON*; Footprint: Package_TO_SOT_SMD:TDSON-8-1; Datasheet: http://www.ti.com/lit/gpn/csd18532q5b
pins: 1 S, 2 S hidden, 3 S hidden, 4 G, 5 D

## CSD18533Q5A
designator *  value CSD18533Q5A  Reference: Q
ki_keywords: NexFET Power MOSFET N-MOS; ki_description: 100A Id, 60V Vds, NexFET N-Channel Power MOSFET, 5.9mOhm Ron, 29nC Qg(typ), SON8 5x6mm; ki_fp_filters: TDSON*; Footprint: Package_TO_SOT_SMD:TDSON-8-1; Datasheet: http://www.ti.com/lit/gpn/csd18533q5a
pins: 1 S, 2 S hidden, 3 S hidden, 4 G, 5 D

## CSD18534Q5A
designator *  value CSD18534Q5A  Reference: Q
ki_keywords: NexFET Power MOSFET N-MOS; ki_description: 50A Id, 60V Vds, NexFET N-Channel Power MOSFET, 9.8mOhm Ron, 17nC Qg(typ), SON8 5x6mm; ki_fp_filters: TDSON*; Footprint: Package_TO_SOT_SMD:TDSON-8-1; Datasheet: http://www.ti.com/lit/gpn/csd18534q5a
pins: 1 S, 2 S hidden, 3 S hidden, 4 G, 5 D

## CSD18537NQ5A
designator *  value CSD18537NQ5A  Reference: Q
ki_keywords: NexFET Power MOSFET N-MOS; ki_description: 50A Id, 60V Vds, NexFET N-Channel Power MOSFET, 13mOhm Ron, 14nC Qg(typ), SON8 5x6mm; ki_fp_filters: TDSON*; Footprint: Package_TO_SOT_SMD:TDSON-8-1; Datasheet: http://www.ti.com/lit/gpn/csd18537nq5a
pins: 1 S, 2 S hidden, 3 S hidden, 4 G, 5 D

## CSD18540Q5B
designator *  value CSD18540Q5B  Reference: Q
ki_keywords: NexFET Power MOSFET N-MOS; ki_description: 100A Id, 60V Vds, NexFET N-Channel Power MOSFET, 2.2mOhm Ron, 41nC Qg(typ), SON8 5x6mm; ki_fp_filters: TDSON*; Footprint: Package_TO_SOT_SMD:TDSON-8-1; Datasheet: http://www.ti.com/lit/gpn/csd18540q5b
pins: 1 S, 2 S hidden, 3 S hidden, 4 G, 5 D

## CSD18563Q5A
designator *  value CSD18563Q5A  Reference: Q
ki_keywords: NexFET Power MOSFET N-MOS; ki_description: 100A Id, 60V Vds, NexFET N-Channel Power MOSFET, 6.8mOhm Ron, 15nC Qg(typ), SON8 5x6mm; ki_fp_filters: TDSON*; Footprint: Package_TO_SOT_SMD:TDSON-8-1; Datasheet: http://www.ti.com/lit/gpn/csd18563q5a
pins: 1 S, 2 S hidden, 3 S hidden, 4 G, 5 D

## CSD19502Q5B
designator *  value CSD19502Q5B  Reference: Q
ki_keywords: NexFET Power MOSFET N-MOS; ki_description: 100A Id, 80V Vds, NexFET N-Channel Power MOSFET, 4.1mOhm Ron, 48nC Qg(typ), SON8 5x6mm; ki_fp_filters: TDSON*; Footprint: Package_TO_SOT_SMD:TDSON-8-1; Datasheet: http://www.ti.com/lit/gpn/csd19502q5b
pins: 1 S, 2 S hidden, 3 S hidden, 4 G, 5 D

## CSD19531Q5A
designator *  value CSD19531Q5A  Reference: Q
ki_keywords: NexFET Power MOSFET N-MOS; ki_description: 100A Id, 100V Vds, NexFET N-Channel Power MOSFET, 6.4mOhm Ron, 37nC Qg(typ), SON8 5x6mm; ki_fp_filters: TDSON*; Footprint: Package_TO_SOT_SMD:TDSON-8-1; Datasheet: http://www.ti.com/lit/gpn/csd19531q5a
pins: 1 S, 2 S hidden, 3 S hidden, 4 G, 5 D

## CSD19532Q5B
designator *  value CSD19532Q5B  Reference: Q
ki_keywords: NexFET Power MOSFET N-MOS; ki_description: 100A Id, 100V Vds, NexFET N-Channel Power MOSFET, 4.9mOhm Ron, 48nC Qg(typ), SON8 5x6mm; ki_fp_filters: TDSON*; Footprint: Package_TO_SOT_SMD:TDSON-8-1; Datasheet: http://www.ti.com/lit/gpn/csd19532q5b
pins: 1 S, 2 S hidden, 3 S hidden, 4 G, 5 D

## CSD19533Q5A
designator *  value CSD19533Q5A  Reference: Q
ki_keywords: NexFET Power MOSFET N-MOS; ki_description: 100A Id, 100V Vds, NexFET N-Channel Power MOSFET, 9.5mOhm Ron, 27nC Qg(typ), SON8 5x6mm; ki_fp_filters: TDSON*; Footprint: Package_TO_SOT_SMD:TDSON-8-1; Datasheet: http://www.ti.com/lit/gpn/csd19533q5a
pins: 1 S, 2 S hidden, 3 S hidden, 4 G, 5 D

## CSD19534Q5A
designator *  value CSD19534Q5A  Reference: Q
ki_keywords: NexFET Power MOSFET N-MOS; ki_description: 50A Id, 100V Vds, NexFET N-Channel Power MOSFET, 15.1mOhm Ron, 17nC Qg(typ), SON8 5x6mm; ki_fp_filters: TDSON*; Footprint: Package_TO_SOT_SMD:TDSON-8-1; Datasheet: http://www.ti.com/lit/gpn/csd19534q5a
pins: 1 S, 2 S hidden, 3 S hidden, 4 G, 5 D

## CSD19537Q3
designator *  value CSD19537Q3  Reference: Q
ki_keywords: NexFET Power MOSFET N-MOS; ki_description: 50A Id, 100V Vds, NexFET N-Channel Power MOSFET, 13mOhm Ron, Qg Typ 16.0nC, VSON8 3.3x3.3mm; ki_fp_filters: VSON*3.3x3.3mm*P0.65mm*NexFET*; Footprint: Package_SON:VSON-8_3.3x3.3mm_P0.65mm_NexFET; Datasheet: http://www.ti.com/lit/ds/symlink/csd19537q3.pdf
pins: 1 S, 2 S hidden, 3 S hidden, 4 G, 5 D

## CSD25302Q2
designator *  value CSD25302Q2  Reference: Q
ki_keywords: NexFET Power MOSFET P-MOS; ki_description: 5A Id, 20V Vds, NexFET P-Channel Power MOSFET, 39mOhm Ron, SON-6; ki_fp_filters: Texas*DQK*; Footprint: Package_SON:Texas_DQK; Datasheet: https://www.ti.com/lit/ds/slps234b/slps234b.pdf
pins: 1 S, 2 S hidden, 3 G, 4 D, 5 S hidden, 6 S hidden, 7 D hidden, 8 S hidden

## DMC2053UVT
designator *  value DMC2053UVT  Reference: Q
ki_keywords: complementary mosfet; ki_description: 4.6A/-3.2A Id, 20V Vds, Complementary pair enhancement mode P-Channel and N-Channel MOSFET, TSOT-23-6; ki_fp_filters: TSOT?23*; Footprint: Package_TO_SOT_SMD:TSOT-23-6; Datasheet: https://www.diodes.com/assets/Datasheets/DMC2053UVT.pdf
part A pins: 1 G, 5 S, 6 D
part B pins: 2 S, 3 G, 4 D

## DMC3071LVT
designator *  value DMC3071LVT  Reference: Q
ki_keywords: complementary mosfet; ki_description: 3.4A/-2.7A Id, 30V Vds, Complementary pair enhancement mode P-Channel and N-Channel MOSFET, TSOT-23-6; ki_fp_filters: TSOT?23*; Footprint: Package_TO_SOT_SMD:TSOT-23-6; Datasheet: https://www.diodes.com/assets/Datasheets/DMC3071LVT.pdf
part A pins: 1 G, 5 S, 6 D
part B pins: 2 S, 3 G, 4 D

## DMG1012T
designator *  value DMG1012T  Reference: Q
ki_keywords: N-Channel MOSFET; ki_description: 20V Vds, 0.63 Id, N-Channel MOSFET with ESD protection, SOT-523; ki_fp_filters: SOT?523*; Footprint: Package_TO_SOT_SMD:SOT-523; Datasheet: https://www.diodes.com/assets/Datasheets/ds31783.pdf
pins: 1 G, 2 S, 3 D

## DMG2301L
designator *  value DMG2301L  Reference: Q
ki_keywords: P-Channel MOSFET; ki_description: -3A Id, -20V Vds, P-Channel MOSFET, SOT-23; ki_fp_filters: SOT?23*; Footprint: Package_TO_SOT_SMD:SOT-23; Datasheet: https://www.diodes.com/assets/Datasheets/DMG2301L.pdf
pins: 1 G, 2 S, 3 D

## DMG2302U
designator *  value DMG2302U  Reference: Q
ki_keywords: N-Channel MOSFET; ki_description: 4.2A Id, 20V Vds, N-Channel MOSFET, SOT-23; ki_fp_filters: SOT?23*; Footprint: Package_TO_SOT_SMD:SOT-23; Datasheet: http://www.diodes.com/assets/Datasheets/DMG2302U.pdf
pins: 1 G, 2 S, 3 D

## DMG3402L
designator *  value DMG3402L  Reference: Q
ki_keywords: N-Channel MOSFET; ki_description: 4A Id, 30V Vds, N-Channel MOSFET, SOT-23; ki_fp_filters: SOT?23*; Footprint: Package_TO_SOT_SMD:SOT-23; Datasheet: http://www.diodes.com/assets/Datasheets/DMG3402L.pdf
pins: 1 G, 2 S, 3 D

## DMG3404L
designator *  value DMG3404L  Reference: Q
ki_keywords: N-Channel MOSFET; ki_description: 5.8A Id, 30V Vds, N-Channel MOSFET, SOT-23; ki_fp_filters: SOT?23*; Footprint: Package_TO_SOT_SMD:SOT-23; Datasheet: http://www.diodes.com/assets/Datasheets/DMG3404L.pdf
pins: 1 G, 2 S, 3 D

## DMG3406L
designator *  value DMG3406L  Reference: Q
ki_keywords: N-Channel MOSFET; ki_description: 3.6A Id, 30V Vds, N-Channel MOSFET, SOT-23; ki_fp_filters: SOT?23*; Footprint: Package_TO_SOT_SMD:SOT-23; Datasheet: http://www.diodes.com/assets/Datasheets/DMG3406L.pdf
pins: 1 G, 2 S, 3 D

## DMG3414U
designator *  value DMG3414U  Reference: Q
ki_keywords: N-Channel MOSFET; ki_description: 4.2A Id, 20V Vds, N-Channel MOSFET, SOT-23; ki_fp_filters: SOT?23*; Footprint: Package_TO_SOT_SMD:SOT-23; Datasheet: http://www.diodes.com/assets/Datasheets/ds31739.pdf
pins: 1 G, 2 S, 3 D

## DMG3418L
designator *  value DMG3418L  Reference: Q
ki_keywords: N-Channel MOSFET; ki_description: 4A Id, 30V Vds, N-Channel MOSFET, SOT-23; ki_fp_filters: SOT?23*; Footprint: Package_TO_SOT_SMD:SOT-23; Datasheet: http://www.diodes.com/assets/Datasheets/DMG3418L.pdf
pins: 1 G, 2 S, 3 D

## DMG9926UDM
designator *  value DMG9926UDM  Reference: Q
ki_keywords: Dual Half Bridge N-Channel MOSFET Logic Level Common Drain; ki_description: 4.2A Id, 20V Vds, Common-Drain, Dual Half Bridge N-Channel MOSFET, 28mOhm Ron, SOT-23-6; ki_fp_filters: SOT?23*; Footprint: Package_TO_SOT_SMD:SOT-23-6; Datasheet: https://www.diodes.com/assets/Datasheets/ds31770.pdf
pins: 1 D1, 2 S1/D2, 3 S2, 4 G2, 5 S1/D2 hidden, 6 G1

## DMN10H220L
designator *  value DMN10H220L  Reference: Q
ki_keywords: N-Channel MOSFET; ki_description: 1.6A Id, 100V Vds, N-Channel MOSFET, SOT-23; ki_fp_filters: SOT?23*; Footprint: Package_TO_SOT_SMD:SOT-23; Datasheet: http://www.diodes.com/assets/Datasheets/DMN10H220L.pdf
pins: 1 G, 2 S, 3 D

## DMN10H700S
designator *  value DMN10H700S  Reference: Q
ki_keywords: N-Channel MOSFET; ki_description: 0.7A Id, 100V Vds, N-Channel MOSFET, SOT-23; ki_fp_filters: SOT?23*; Footprint: Package_TO_SOT_SMD:SOT-23; Datasheet: http://www.diodes.com/assets/Datasheets/DMN10H700S.pdf
pins: 1 G, 2 S, 3 D

## DMN13H750S
designator *  value DMN13H750S  Reference: Q
ki_keywords: N-Channel MOSFET; ki_description: 1A Id, 130V Vds, N-Channel MOSFET, SOT-23; ki_fp_filters: SOT?23*; Footprint: Package_TO_SOT_SMD:SOT-23; Datasheet: http://www.diodes.com/assets/Datasheets/DMN13H750S.pdf
pins: 1 G, 2 S, 3 D

## DMN24H3D5L
designator *  value DMN24H3D5L  Reference: Q
ki_keywords: N-Channel MOSFET; ki_description: 0.48A Id, 240V Vds, N-Channel MOSFET, SOT-23; ki_fp_filters: SOT?23*; Footprint: Package_TO_SOT_SMD:SOT-23; Datasheet: http://www.diodes.com/assets/Datasheets/DMN24H3D5L.pdf
pins: 1 G, 2 S, 3 D

## DMN24H11DS
designator *  value DMN24H11DS  Reference: Q
ki_keywords: N-Channel MOSFET; ki_description: 0.27A Id, 240V Vds, N-Channel MOSFET, SOT-23; ki_fp_filters: SOT?23*; Footprint: Package_TO_SOT_SMD:SOT-23; Datasheet: http://www.diodes.com/assets/Datasheets/DMN24H11DS.pdf
pins: 1 G, 2 S, 3 D

## DMN30H4D0L
designator *  value DMN30H4D0L  Reference: Q
ki_keywords: N-Channel MOSFET; ki_description: 0.25A Id, 300V Vds, N-Channel MOSFET, SOT-23; ki_fp_filters: SOT?23*; Footprint: Package_TO_SOT_SMD:SOT-23; Datasheet: http://www.diodes.com/assets/Datasheets/DMN30H4D0L.pdf
pins: 1 G, 2 S, 3 D

## DMN32D2LDF
designator *  value DMN32D2LDF  Reference: Q
ki_keywords: N-FET; ki_description: Common Source Dual 400mA Id, 30V Vds, N-Channel MOSFET, 1.5Ohm Ron, SOT-353; ki_fp_filters: SOT?353*; Footprint: Package_TO_SOT_SMD:SOT-353_SC-70-5; Datasheet: https://www.diodes.com/assets/Datasheets/ds31238.pdf
pins: 1 G1, 2 S, 3 G2, 4 D2, 5 D1

## DMN60H080DS
designator *  value DMN60H080DS  Reference: Q
ki_keywords: N-Channel MOSFET; ki_description: 600V Vds, 80mA Id, N-Channel MOSFET with ESD protection, SOT-23; ki_fp_filters: SOT?23*; Footprint: Package_TO_SOT_SMD:SOT-23; Datasheet: https://www.diodes.com/assets/Datasheets/DMN60H080DS.pdf
pins: 1 G, 2 S, 3 D

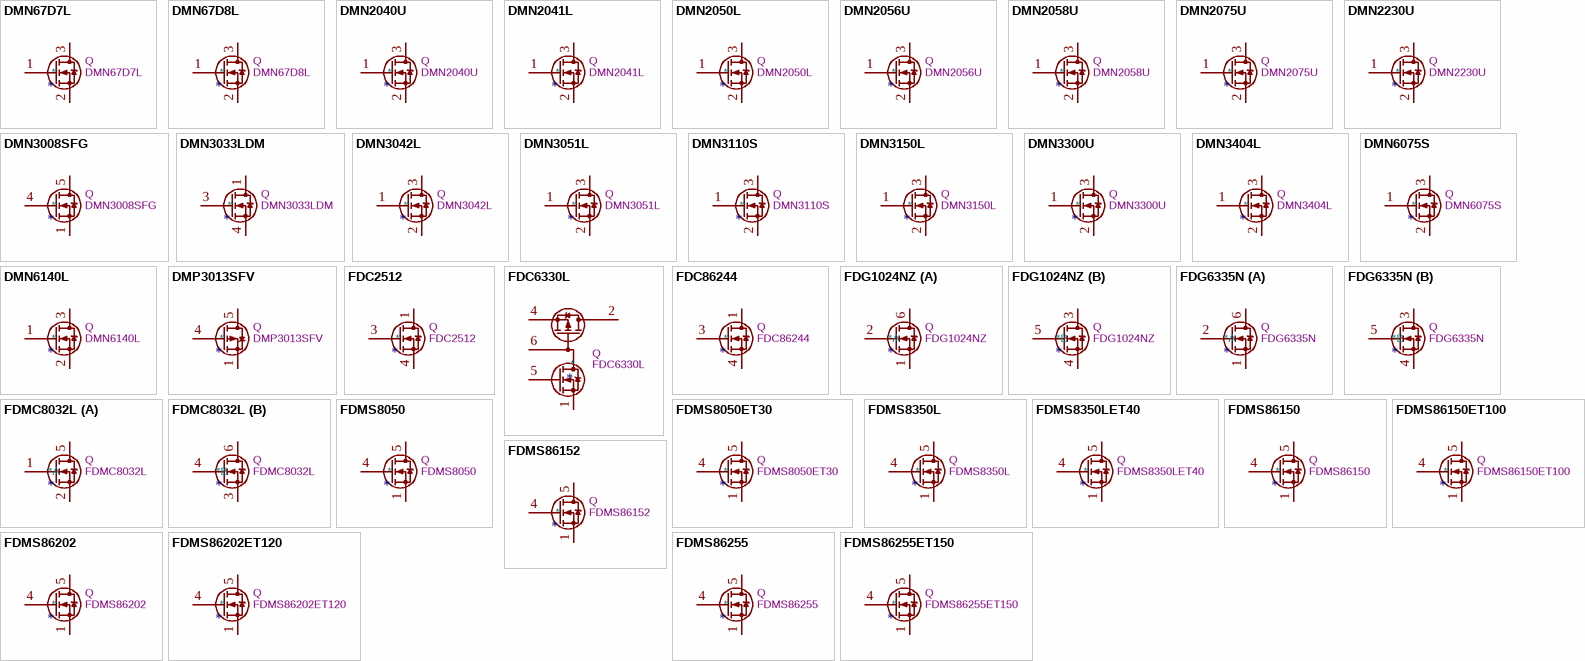
[diagram p6: symbols DMN67D7L to FDMS86255ET150]

## DMN67D7L
designator *  value DMN67D7L  Reference: Q
ki_keywords: N-Channel MOSFET; ki_description: 0.21A Id, 60V Vds, N-Channel MOSFET, SOT-23; ki_fp_filters: SOT?23*; Footprint: Package_TO_SOT_SMD:SOT-23; Datasheet: http://www.diodes.com/assets/Datasheets/DMN67D7L.pdf
pins: 1 G, 2 S, 3 D

## DMN67D8L
designator *  value DMN67D8L  Reference: Q
ki_keywords: N-Channel MOSFET; ki_description: 0.21A Id, 60V Vds, N-Channel MOSFET, SOT-23; ki_fp_filters: SOT?23*; Footprint: Package_TO_SOT_SMD:SOT-23; Datasheet: http://www.diodes.com/assets/Datasheets/DMN67D8L.pdf
pins: 1 G, 2 S, 3 D

## DMN2040U
designator *  value DMN2040U  Reference: Q
ki_keywords: N-Channel MOSFET; ki_description: 20V Vds, 6A Id, N-Channel MOSFET, SOT-23; ki_fp_filters: SOT?23*; Footprint: Package_TO_SOT_SMD:SOT-23; Datasheet: https://www.diodes.com/assets/Datasheets/DMN2040U.pdf
pins: 1 G, 2 S, 3 D

## DMN2041L
designator *  value DMN2041L  Reference: Q
ki_keywords: N-Channel MOSFET; ki_description: 6.4A Id, 20V Vds, N-Channel MOSFET, SOT-23; ki_fp_filters: SOT?23*; Footprint: Package_TO_SOT_SMD:SOT-23; Datasheet: https://www.diodes.com/assets/Datasheets/products_inactive_data/DMN2041L.pdf
pins: 1 G, 2 S, 3 D

## DMN2050L
designator *  value DMN2050L  Reference: Q
ki_keywords: N-Channel MOSFET; ki_description: 5.9A Id, 20V Vds, N-Channel MOSFET, SOT-23; ki_fp_filters: SOT?23*; Footprint: Package_TO_SOT_SMD:SOT-23; Datasheet: http://www.diodes.com/assets/Datasheets/ds31502.pdf
pins: 1 G, 2 S, 3 D

## DMN2056U
designator *  value DMN2056U  Reference: Q
ki_keywords: N-Channel MOSFET; ki_description: 4A Id, 20V Vds, N-Channel MOSFET, SOT-23; ki_fp_filters: SOT?23*; Footprint: Package_TO_SOT_SMD:SOT-23; Datasheet: http://www.diodes.com/assets/Datasheets/DMN2056U.pdf
pins: 1 G, 2 S, 3 D

## DMN2058U
designator *  value DMN2058U  Reference: Q
ki_keywords: N-Channel MOSFET; ki_description: 4.6A Id, 20V Vds, N-Channel MOSFET, SOT-23; ki_fp_filters: SOT?23*; Footprint: Package_TO_SOT_SMD:SOT-23; Datasheet: http://www.diodes.com/assets/Datasheets/DMN2058U.pdf
pins: 1 G, 2 S, 3 D

## DMN2075U
designator *  value DMN2075U  Reference: Q
ki_keywords: N-Channel MOSFET; ki_description: 4.2A Id, 20V Vds, N-Channel MOSFET, SOT-23; ki_fp_filters: SOT?23*; Footprint: Package_TO_SOT_SMD:SOT-23; Datasheet: http://www.diodes.com/assets/Datasheets/DMN2075U.pdf
pins: 1 G, 2 S, 3 D

## DMN2230U
designator *  value DMN2230U  Reference: Q
ki_keywords: N-Channel MOSFET; ki_description: 2A Id, 20V Vds, N-Channel MOSFET, SOT-23; ki_fp_filters: SOT?23*; Footprint: Package_TO_SOT_SMD:SOT-23; Datasheet: http://www.diodes.com/assets/Datasheets/ds31180.pdf
pins: 1 G, 2 S, 3 D

## DMN3008SFG
designator *  value DMN3008SFG  Reference: Q
ki_keywords: N-Channel MOSFET; ki_description: 17.6A Id, 30V Vds, N-Channel Power MOSFET, 4.4mOhm Ron, 86nC Qg (typ), PowerDI3333-8; ki_fp_filters: Diodes*PowerDI3333*; Footprint: Package_SON:Diodes_PowerDI3333-8; Datasheet: https://www.diodes.com/assets/Datasheets/DMN3008SFG.pdf
pins: 1 S, 2 S hidden, 3 S hidden, 4 G, 5 D

## DMN3033LDM
designator *  value DMN3033LDM  Reference: Q
ki_keywords: N-Channel MOSFET; ki_description: 6.9A Id, 30V Vds, N-Channel MOSFET, SOT-23-6; ki_fp_filters: SOT?23*; Footprint: Package_TO_SOT_SMD:SOT-23-6; Datasheet: https://www.diodes.com/assets/Datasheets/ds31345.pdf
pins: 1 D, 2 D hidden, 3 G, 4 S, 5 D hidden, 6 D hidden

## DMN3042L
designator *  value DMN3042L  Reference: Q
ki_keywords: N-Channel MOSFET; ki_description: 5.8A Id, 30V Vds, N-Channel MOSFET, SOT-23; ki_fp_filters: SOT?23*; Footprint: Package_TO_SOT_SMD:SOT-23; Datasheet: http://www.diodes.com/assets/Datasheets/DMN3042L.pdf
pins: 1 G, 2 S, 3 D

## DMN3051L
designator *  value DMN3051L  Reference: Q
ki_keywords: N-Channel MOSFET; ki_description: 5.8A Id, 30V Vds, N-Channel MOSFET, SOT-23; ki_fp_filters: SOT?23*; Footprint: Package_TO_SOT_SMD:SOT-23; Datasheet: http://www.diodes.com/assets/Datasheets/ds31347.pdf
pins: 1 G, 2 S, 3 D

## DMN3110S
designator *  value DMN3110S  Reference: Q
ki_keywords: N-Channel MOSFET; ki_description: 3.3A Id, 30V Vds, N-Channel MOSFET, SOT-23; ki_fp_filters: SOT?23*; Footprint: Package_TO_SOT_SMD:SOT-23; Datasheet: http://www.diodes.com/assets/Datasheets/DMN3110S.pdf
pins: 1 G, 2 S, 3 D

## DMN3150L
designator *  value DMN3150L  Reference: Q
ki_keywords: N-Channel MOSFET; ki_description: 3.8A Id, 30V Vds, N-Channel MOSFET, SOT-23; ki_fp_filters: SOT?23*; Footprint: Package_TO_SOT_SMD:SOT-23; Datasheet: http://www.diodes.com/assets/Datasheets/ds31126.pdf
pins: 1 G, 2 S, 3 D

## DMN3300U
designator *  value DMN3300U  Reference: Q
ki_keywords: N-Channel MOSFET; ki_description: 2A Id, 30V Vds, N-Channel MOSFET, SOT-23; ki_fp_filters: SOT?23*; Footprint: Package_TO_SOT_SMD:SOT-23; Datasheet: http://www.diodes.com/assets/Datasheets/ds31181.pdf
pins: 1 G, 2 S, 3 D

## DMN3404L
designator *  value DMN3404L  Reference: Q
ki_keywords: N-Channel MOSFET; ki_description: 5.8A Id, 30V Vds, N-Channel MOSFET, SOT-23; ki_fp_filters: SOT?23*; Footprint: Package_TO_SOT_SMD:SOT-23; Datasheet: http://www.diodes.com/assets/Datasheets/ds31787.pdf
pins: 1 G, 2 S, 3 D

## DMN6075S
designator *  value DMN6075S  Reference: Q
ki_keywords: N-Channel MOSFET; ki_description: 2.5A Id, 60V Vds, N-Channel MOSFET, SOT-23; ki_fp_filters: SOT?23*; Footprint: Package_TO_SOT_SMD:SOT-23; Datasheet: http://www.diodes.com/assets/Datasheets/DMN6075S.pdf
pins: 1 G, 2 S, 3 D

## DMN6140L
designator *  value DMN6140L  Reference: Q
ki_keywords: N-Channel MOSFET; ki_description: 2.3A Id, 60V Vds, N-Channel MOSFET, SOT-23; ki_fp_filters: SOT?23*; Footprint: Package_TO_SOT_SMD:SOT-23; Datasheet: http://www.diodes.com/assets/Datasheets/DMN6140L.pdf
pins: 1 G, 2 S, 3 D

## DMP3013SFV
designator *  value DMP3013SFV  Reference: Q
ki_keywords: P-Channel MOSFET; ki_description: -12A Id, -30V Vds, P-Channel Power MOSFET, 9.5mOhm Ron, 33.7nC Qg (typ), PowerDI3333-8; ki_fp_filters: Diodes*PowerDI3333*; Footprint: Package_SON:Diodes_PowerDI3333-8; Datasheet: https://www.diodes.com/assets/Datasheets/DMP3013SFV.pdf
pins: 1 S, 2 S hidden, 3 S hidden, 4 G, 5 D

## FDC2512
designator *  value FDC2512  Reference: Q
ki_keywords: N-Channel MOSFET; ki_description: 1.4A Id, 150V Vds, N-Channel MOSFET, 425mOhm Ron, SuperSOT-6; ki_fp_filters: SuperSOT*; Footprint: Package_TO_SOT_SMD:SuperSOT-6; Datasheet: https://www.onsemi.com/pub/Collateral/FDC2512-D.pdf
pins: 1 D, 2 D hidden, 3 G, 4 S, 5 D hidden, 6 D hidden

## FDC6330L
designator *  value FDC6330L  Reference: Q
ki_keywords: complementary mosfet; ki_description: -2.3A, 20V Vds, Integrated load switch, P-Channel MOSFET driven by small N-Channel MOSFET, TSOT-23-6; ki_fp_filters: TSOT?23*; Footprint: Package_TO_SOT_SMD:TSOT-23-6; Datasheet: https://www.onsemi.com/pub/Collateral/FDC6330L-D.PDF
pins: 1 S1, 2 D2, 3 D2 hidden, 4 S2, 5 G1, 6 D1

## FDC86244
designator *  value FDC86244  Reference: Q
ki_keywords: N-Channel MOSFET; ki_description: 2.3A Id, 150V Vds, N-Channel MOSFET, 144mOhm Ron, SuperSOT-6; ki_fp_filters: SuperSOT*; Footprint: Package_TO_SOT_SMD:SuperSOT-6; Datasheet: https://www.onsemi.com/pub/Collateral/FDC86244-D.pdf
pins: 1 D, 2 D hidden, 3 G, 4 S, 5 D hidden, 6 D hidden

## FDG1024NZ
designator *  value FDG1024NZ  Reference: Q
ki_keywords: Dual N-Channel MOSFET Logic Level; ki_description: 1.2A Id, 20V Vds, Dual N-Channel MOSFET, 175mOhm Ron, SC-70-6; ki_fp_filters: SOT?363*; Footprint: Package_TO_SOT_SMD:SOT-363_SC-70-6; Datasheet: https://www.onsemi.com/pub/Collateral/FDG1024NZ-D.pdf
part A pins: 1 S, 2 G, 6 D
part B pins: 3 D, 4 S, 5 G

## FDG6335N
designator *  value FDG6335N  Reference: Q
ki_keywords: Dual N-Channel MOSFET; ki_description: 0.7A Id, 20V Vds, Dual N-Channel MOSFET, 300mOhm Ron, SC-70-6; ki_fp_filters: SOT?363*; Footprint: Package_TO_SOT_SMD:SOT-363_SC-70-6; Datasheet: http://www.gneic.com/product/datasheet/FDG6335N-1122853.pdf
part A pins: 1 S, 2 G, 6 D
part B pins: 3 D, 4 S, 5 G

## FDMC8032L
designator *  value FDMC8032L  Reference: Q
ki_keywords: Dual N-Channel MOSFET; ki_description: 7A Id, 40V Vds, Dual N-Channel MOSFET, 20mOhm Ron, Power33 Package; ki_fp_filters: Fairchild*DualPower33*3x3mm*; Footprint: Package_SON:Fairchild_DualPower33-6_3x3mm; Datasheet: https://www.onsemi.com/pub/Collateral/FDMC8032L-D.PDF
part A pins: 1 G1, 2 S1, 5 D1
part B pins: 3 S2, 4 G2, 6 D2

## FDMS8050
designator *  value FDMS8050  Reference: Q
ki_keywords: powertrench MOSFET fairchild; ki_description: 55A Id, 30V Vds, N-Channel PowerTrench MOSFET, 0.65mOhm Ron, 285nC Qgmax, -55 to 150 °C, 5x6mm SON8; ki_fp_filters: TDSON*; Footprint: Package_TO_SOT_SMD:TDSON-8-1; Datasheet: https://www.onsemi.com/pub/Collateral/FDMS8050-D.pdf
pins: 1 S, 2 S hidden, 3 S hidden, 4 G, 5 D

## FDMS8050ET30
designator *  value FDMS8050ET30  Reference: Q
ki_keywords: powertrench MOSFET fairchild; ki_description: 55A Id, 30V Vds, N-Channel PowerTrench MOSFET, 0.65mOhm Ron, 285nC Qgmax, -55 to 175 °C, 5x6mm SON8; ki_fp_filters: TDSON*; Footprint: Package_TO_SOT_SMD:TDSON-8-1; Datasheet: https://www.onsemi.com/pub/Collateral/FDMS8050ET30-D.pdf
pins: 1 S, 2 S hidden, 3 S hidden, 4 G, 5 D

## FDMS8350L
designator *  value FDMS8350L  Reference: Q
ki_keywords: powertrench MOSFET fairchild; ki_description: 47A Id, 40V Vds, N-Channel PowerTrench MOSFET, 0.85mOhm Ron, 242nC Qgmax, -55 to 150 °C, 5x6mm SON8; ki_fp_filters: TDSON*; Footprint: Package_TO_SOT_SMD:TDSON-8-1; Datasheet: https://www.onsemi.com/pub/Collateral/FDMS8350L-D.pdf
pins: 1 S, 2 S hidden, 3 S hidden, 4 G, 5 D

## FDMS8350LET40
designator *  value FDMS8350LET40  Reference: Q
ki_keywords: powertrench-MOSFET MOSFET fairchild; ki_description: 49A Id, 40V Vds, N-Channel PowerTrench MOSFET, 0.85mOhm Ron, 242nC Qgmax, -55 to 175 °C, 5x6mm SON8; ki_fp_filters: TDSON*; Footprint: Package_TO_SOT_SMD:TDSON-8-1; Datasheet: https://www.onsemi.com/pub/Collateral/FDMS8350LET40-D.pdf
pins: 1 S, 2 S hidden, 3 S hidden, 4 G, 5 D

## FDMS86150
designator *  value FDMS86150  Reference: Q
ki_keywords: powertrench MOSFET fairchild; ki_description: 16A Id, 100V Vds, N-Channel PowerTrench MOSFET, 4.85mOhm Ron, 62nC Qgmax, -55 to 150 °C, 5x6mm SON8; ki_fp_filters: TDSON*; Footprint: Package_TO_SOT_SMD:TDSON-8-1; Datasheet: https://www.onsemi.com/pub/Collateral/FDMS86150ET100-D.pdf
pins: 1 S, 2 S hidden, 3 S hidden, 4 G, 5 D

## FDMS86150ET100
designator *  value FDMS86150ET100  Reference: Q
ki_keywords: powertrench-MOSFET MOSFET fairchild; ki_description: 16A Id, 100V Vds, N-Channel PowerTrench MOSFET, 4.85mOhm Ron, 62nC Qgmax, -55 to 175 °C, 5x6mm SON8; ki_fp_filters: TDSON*; Footprint: Package_TO_SOT_SMD:TDSON-8-1; Datasheet: https://www.mouser.fr/datasheet/2/308/FDMS86150ET100-D-1807744.pdf
pins: 1 S, 2 S hidden, 3 S hidden, 4 G, 5 D

## FDMS86152
designator *  value FDMS86152  Reference: Q
ki_keywords: powertrench MOSFET fairchild; ki_description: 14A Id, 100V Vds, N-Channel PowerTrench MOSFET, 6mOhm Ron, 50nC Qgmax, -55 to 150 °C, 5x6mm SON8; ki_fp_filters: TDSON*; Footprint: Package_TO_SOT_SMD:TDSON-8-1; Datasheet: https://www.mouser.fr/datasheet/2/308/FDMS86152-D-1808412.pdf
pins: 1 S, 2 S hidden, 3 S hidden, 4 G, 5 D

## FDMS86202
designator *  value FDMS86202  Reference: Q
ki_keywords: shielded-gate-powertrench MOSFET fairchild; ki_description: 13.5A Id, 120V Vds, N-Channel Shielded Gate PowerTrench MOSFET, 7.2mOhm Ron, 64nC Qgmax, -55 to 150 °C, 5x6mm SON8; ki_fp_filters: TDSON*; Footprint: Package_TO_SOT_SMD:TDSON-8-1; Datasheet: https://www.mouser.fr/datasheet/2/308/FDMS86202-D-1808220.pdf
pins: 1 S, 2 S hidden, 3 S hidden, 4 G, 5 D

## FDMS86202ET120
designator *  value FDMS86202ET120  Reference: Q
ki_keywords: shielded-gate-powertrench MOSFET fairchild; ki_description: 13.5A Id, 120V Vds, N-Channel Shielded Gate PowerTrench MOSFET, 7.2mOhm Ron, 64nC Qgmax, -55 to 175 °C, 5x6mm SON8; ki_fp_filters: TDSON*; Footprint: Package_TO_SOT_SMD:TDSON-8-1; Datasheet: https://www.onsemi.com/pub/Collateral/FDMS86202ET120-D.pdf
pins: 1 S, 2 S hidden, 3 S hidden, 4 G, 5 D